# EAGLE library part MC_ZIGBEE_CARD (library xess)
Microchip 2.4 GHz Zigbee Module Uses Chipcon/TI CC2420 IC.
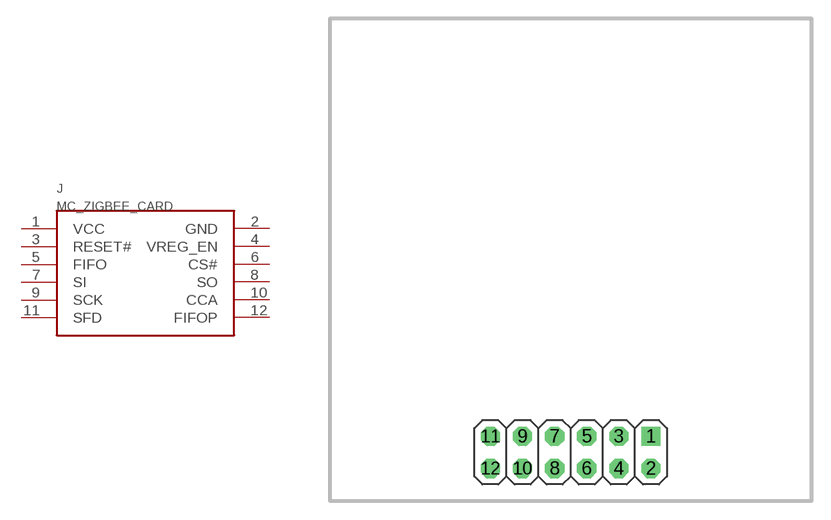
[diagram p64: symbol with the pads of MC_ZIGBEE_CARD; footprint MC_ZIGBEE_CARD]

Designator prefix J

## MC_ZIGBEE_CARD  [MC_ZIGBEE_CARD]
1  VCC  in
2  GND  in
3  RESET#  in
4  VREG_EN  in
5  FIFO  in
6  CS#  in
7  SI  in
8  SO  out
9  SCK  in
10  CCA  in
11  SFD  in
12  FIFOP  in

## Footprint MC_ZIGBEE_CARD (pad centres in mm)
drill 1.016 square: 1 6.35,1.27
drill 1.016 octagon: 2 6.35,-1.27; 3 3.81,1.27; 4 3.81,-1.27; 5 1.27,1.27; 6 1.27,-1.27; 7 -1.27,1.27; 8 -1.27,-1.27; 9 -3.81,1.27; 10 -3.81,-1.27; 11 -6.35,1.27; 12 -6.35,-1.27